# Altium footprint library PCB1.PcbLib: 32 footprints (part 1 of 2)
Each footprint in its own frame and in the unit in brackets; x right, y up, seen from the top. Pads: shape width x height; smd on the part's side, far side on the other; paste and mask are expansions set on the pad; w line width, h text height; cw(c..) or ccw(c..) is an arc to the next point about the centre after c.
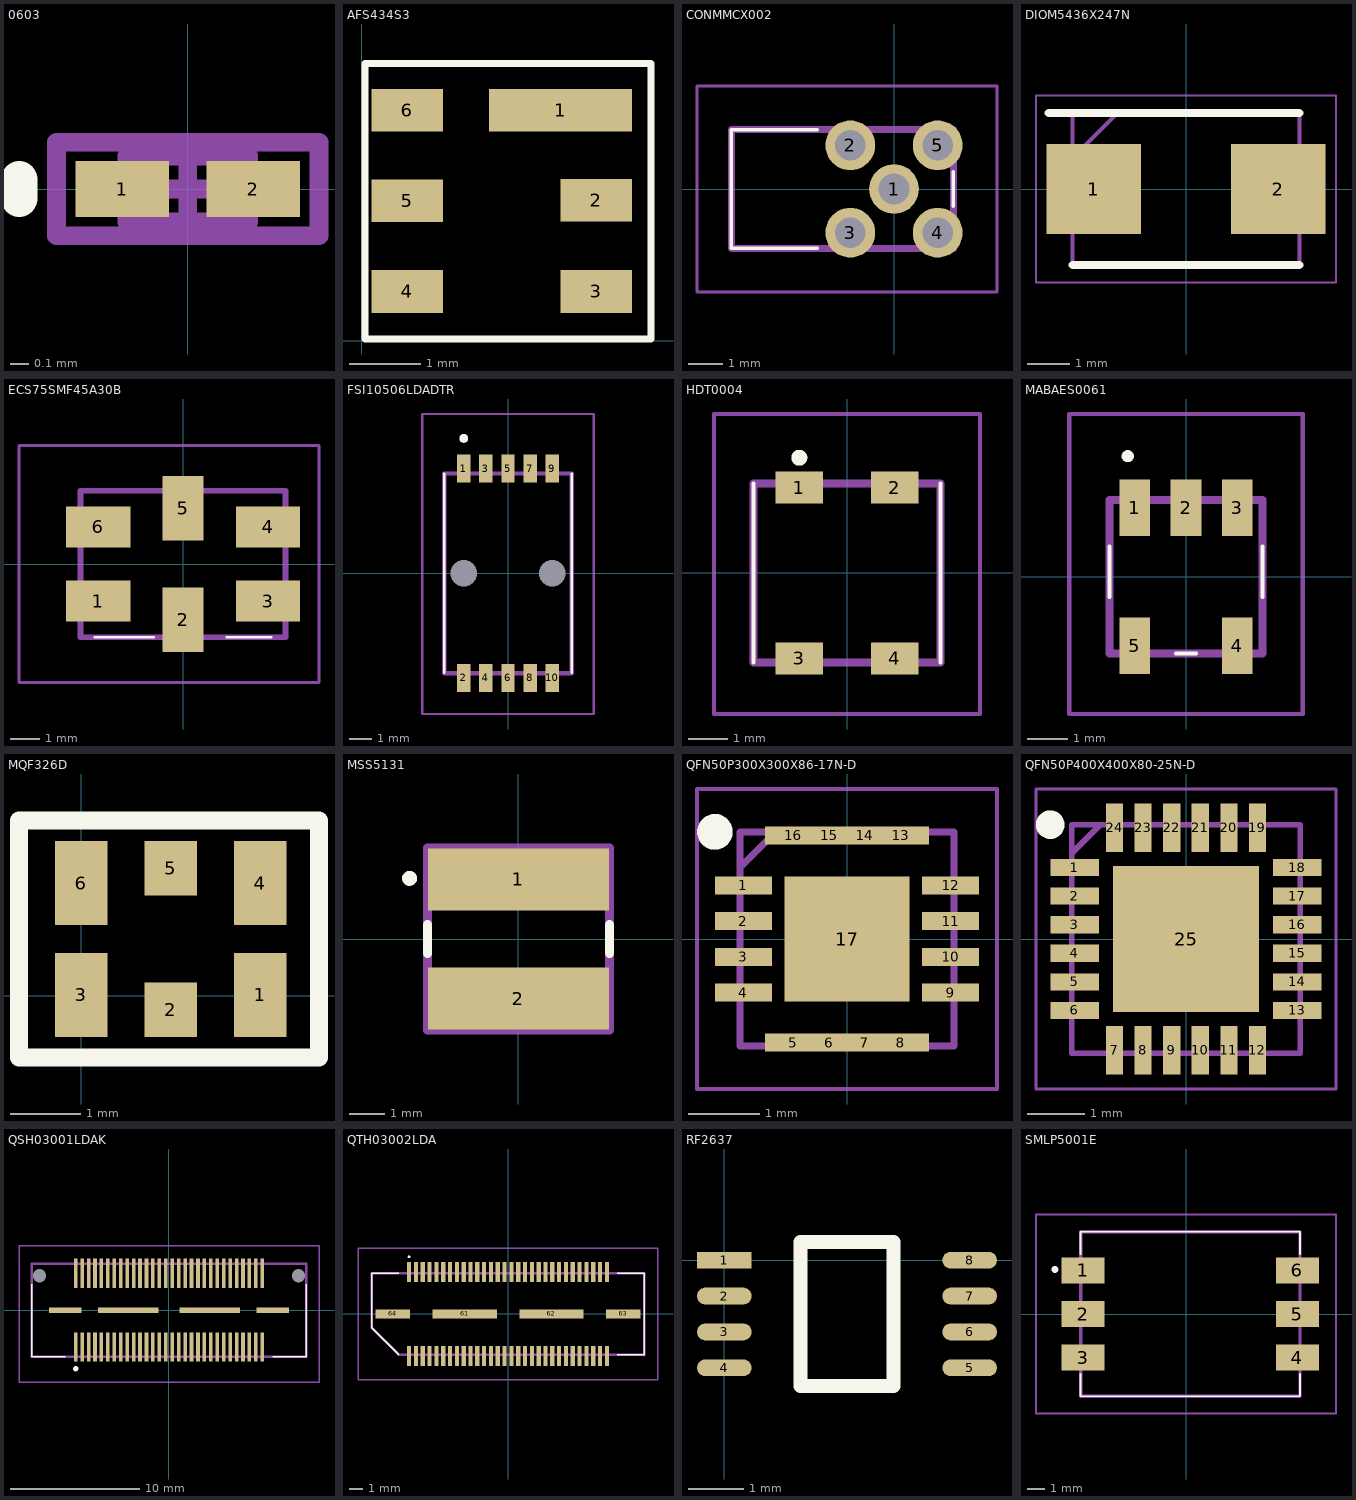
[diagram p0: the footprints below, top view; thin cyan lines are the x and y axes]

## 0603 [mm] "Chip Inductor, Body 0.6x0.3mm, IPC High Density"
height 0.55
pads (2):
  rect 0.5x0.3 smd: 1(-0.35,0) 2(0.35,0)
Top Overlay:
  lines w0.2: -0.9,-0.05 -0.9,0.05
Mechanical 13:
  lines w0.1: -0.325,-0.175 -0.325,0.175 0.325,0.175 0.325,-0.175 -0.325,-0.175
Mechanical 15:
  lines w0.1: -0.175,0 0.175,0 ; 0,-0.175 0,0.175 ; -0.7,-0.25 -0.7,0.25 0.7,0.25 0.7,-0.25 -0.7,-0.25
3D body: height 0.55, standoff 0, extent -0.325,-0.175 0.325,0.175

## AFS434S3 [mm]
pads (6):
  rect 2x0.6 smd: 1(2.784,3.233)
  rect 1x0.6 smd: 2(3.284,1.973) 3(3.284,0.694) 4(0.634,0.694) 5(0.634,1.965) 6(0.634,3.234)
Top Overlay:
  lines w0.1: 0.042,0.028 0.042,3.889 4.055,3.889 4.055,0.028 0.042,0.028

## CONMMCX002 [mm]
pads (5):
  round 1.446 hole 0.89: 1(0,0) 2(-1.27,1.27) 3(-1.27,-1.27) 4(1.27,-1.27) 5(1.27,1.27)
Top Overlay:
  lines w0.1: -2.225,-1.725 -4.725,-1.725 -4.725,1.725 -2.225,1.725 ; 1.725,-0.5 1.725,0.5
Mechanical 13:
  lines w0.2: -4.725,-1.725 -4.725,1.725 1.725,1.725 1.725,-1.725 -4.725,-1.725
Mechanical 15:
  lines w0.1: -5.725,-2.993 -5.725,2.993 2.993,2.993 2.993,-2.993 -5.725,-2.993
3D body "CONMMCX002.stp": height 3.45, standoff -5, extent -4.725,-1.725 1.725,1.725

## DIOM5436X247N [mm]
pads (2):
  rect 2.25x2.15 smd: 1(-2.2,0) 2(2.2,0)
Top Overlay:
  lines w0.2: -3.275,1.812 2.702,1.812 ; -2.702,-1.812 2.702,-1.812
Mechanical 13:
  lines w0.1: -2.702,0.738 -1.628,1.812 ; -2.702,-1.812 -2.702,1.812 2.702,1.812 2.702,-1.812 -2.702,-1.812
Mechanical 15:
  lines w0.05: -3.575,-2.225 -3.575,2.225 3.575,2.225 3.575,-2.225 -3.575,-2.225
3D body "MBRS120T3G.stp": height 2.47, standoff 0, extent -2.702,-1.813 2.702,1.813

## ECS75SMF45A30B [mm]
pads (6):
  rect 2.2x1.4 smd: 1(-2.9,-1.27) 3(2.9,-1.27) 4(2.9,1.27) 6(-2.9,1.27)
  rect 1.4x2.2 smd: 2(0,-1.905) 5(0,1.905)
Top Overlay:
  lines w0.1: -3,-2.5 -1,-2.5 ; 1.5,-2.5 3,-2.5
Mechanical 13:
  lines w0.2: -3.5,-2.5 -3.5,2.5 3.5,2.5 3.5,-2.5 -3.5,-2.5
Mechanical 15:
  lines w0.1: -5.6,-4.05 -5.6,4.05 4.64,4.05 4.64,-4.05 -5.6,-4.05

## FSI10506LDADTR [mm]
pads (12):
  rect 0.61x1.26 smd: 1(-2,4.73) 2(-2,-4.73) 3(-1,4.73) 4(-1,-4.73) 5(0,4.73) 6(0,-4.73) 7(1,4.73) 8(1,-4.73) 9(2,4.73) 10(2,-4.73)
  round 0.595 hole 1.19 unplated: MH1(-2,0) MH2(2,0)
Top Overlay:
  lines w0.1: -2.88,-4.51 -2.88,4.51 ; 2.88,-4.51 2.88,4.51
  lines w0.2: -2,6 cw(c-2,6.1) -2,6.2 cw(c-2,6.1) -2,6
Mechanical 13:
  lines w0.2: -2.88,-4.51 -2.88,4.51 2.88,4.51 2.88,-4.51 -2.88,-4.51
Mechanical 15:
  lines w0.1: -3.88,-6.36 -3.88,7.2 3.88,7.2 3.88,-6.36 -3.88,-6.36
3D body "FSI-105-06-L-D-AD-TR.stp": height 7.5, standoff -1.7, extent -2.88,-5.299 2.88,5.299

## HDT0004 [mm]
pads (4):
  rect 1.2x0.8 smd: 1(-1.2,2.15) 2(1.2,2.15) 3(-1.2,-2.15) 4(1.2,-2.15)
Top Overlay:
  lines w0.1: -2.35,-2.25 -2.35,2.25 ; 2.35,-2.25 2.35,2.25
  lines w0.2: -1.3,2.9 ccw(c-1.2,2.9) -1.1,2.9 ccw(c-1.2,2.9) -1.3,2.9
Mechanical 13:
  lines w0.2: -2.35,-2.25 -2.35,2.25 2.35,2.25 2.35,-2.25 -2.35,-2.25
Mechanical 15:
  lines w0.1: -3.35,-3.55 -3.35,4 3.35,4 3.35,-3.55 -3.35,-3.55
3D body "HDT0004.stp": height 3.1, standoff 0, extent -2.35,-2.47 2.35,2.47

## MABAES0061 [mm]
pads (5):
  rect 0.76x1.4 smd: 1(-1.27,1.715) 2(0,1.715) 3(1.27,1.715) 4(1.27,-1.715) 5(-1.27,-1.715)
Top Overlay:
  lines w0.1: -1.905,-0.5 -1.905,0.75 -1.905,-0.5 ; -0.25,-1.905 0.25,-1.905 -0.25,-1.905 ; 1.905,-0.5 1.905,0.75 1.905,-0.5
  lines w0.2: -1.5,3 ccw(c-1.45,3) -1.4,3 ; -1.5,3 cw(c-1.45,3) -1.4,3 ; -1.5,3 ccw(c-1.45,3) -1.4,3
Mechanical 13:
  lines w0.2: -1.905,-1.905 1.905,-1.905 1.905,1.905 -1.905,1.905 -1.905,-1.905
Mechanical 15:
  lines w0.1: -2.905,-3.415 2.905,-3.415 2.905,4.05 -2.905,4.05 -2.905,-3.415
3D body "MABAES0061.stp": height 0.74, standoff 0, extent -1.905,-2.339 1.905,2.339

## MQF326D [mm]
pads (6):
  rect 0.75x1.2 smd: 1(2.557,0.011) 3(-0.004,0.011) 4(2.557,1.611) 6(-0.004,1.611)
  rect 0.75x0.78 smd: 2(1.277,-0.199) 5(1.277,1.821)
Top Overlay:
  lines w0.254: -0.892,-0.883 3.398,-0.883 3.398,2.505 -0.892,2.505 -0.892,-0.883

## MSS5131 [mm]
pads (2):
  rect 5.08x1.74 smd: 1(0,1.67) 2(0,-1.67)
Top Overlay:
  circle w0.254: c-3.058,1.701 r0.081
  lines w0.254: -2.55,-0.4 -2.55,0.4 ; 2.55,-0.4 2.55,0.4
Mechanical 13:
  lines w0.254: -2.55,-2.55 -2.55,2.55 2.55,2.55 2.55,-2.55 -2.55,-2.55

## QFN50P300X300X86-17N-D [mm]
pads (17):
  rect 0.8x0.25 smd: 1(-1.45,0.75) 2(-1.45,0.25) 3(-1.45,-0.25) 4(-1.45,-0.75) 5(-0.75,-1.45) 6(-0.25,-1.45) 7(0.25,-1.45) 8(0.75,-1.45) 9(1.45,-0.75) 10(1.45,-0.25) 11(1.45,0.25) 12(1.45,0.75) 13(0.75,1.45) 14(0.25,1.45) 15(-0.25,1.45) 16(-0.75,1.45)
  rect 1.75x1.75 smd: 17(0,0)
Top Overlay:
  circle w0.25: c-1.85,1.5 r0.125
Mechanical 13:
  lines w0.1: -1.5,1 -1,1.5 ; -1.5,-1.5 1.5,-1.5 1.5,1.5 -1.5,1.5 -1.5,-1.5
Mechanical 15:
  lines w0.05: -2.1,-2.1 2.1,-2.1 2.1,2.1 -2.1,2.1 -2.1,-2.1
3D body "RFPA0133TR7.stp": height 0.85, standoff 0, extent -1.55,-1.55 1.55,1.55

## QFN50P400X400X80-25N-D [mm]
pads (25):
  rect 0.85x0.3 smd: 1(-1.95,1.25) 2(-1.95,0.75) 3(-1.95,0.25) 4(-1.95,-0.25) 5(-1.95,-0.75) 6(-1.95,-1.25) 13(1.95,-1.25) 14(1.95,-0.75) 15(1.95,-0.25) 16(1.95,0.25) 17(1.95,0.75) 18(1.95,1.25)
  rect 0.3x0.85 smd: 7(-1.25,-1.95) 8(-0.75,-1.95) 9(-0.25,-1.95) 10(0.25,-1.95) 11(0.75,-1.95) 12(1.25,-1.95) 19(1.25,1.95) 20(0.75,1.95) 21(0.25,1.95) 22(-0.25,1.95) 23(-0.75,1.95) 24(-1.25,1.95)
  rect 2.55x2.55 smd: 25(0,0)
Top Overlay:
  circle w0.25: c-2.375,2 r0.125
Mechanical 13:
  lines w0.1: -2,1.5 -1.5,2 ; -2,-2 -2,2 2,2 2,-2 -2,-2
Mechanical 15:
  lines w0.05: -2.625,-2.625 -2.625,2.625 2.625,2.625 2.625,-2.625 -2.625,-2.625
3D body "LTC5599IUF#TRPBF.stp": height 0.8, standoff 0, extent -2.05,-2.05 2.05,2.05

## QSH03001LDAK [mm]
pads (66):
  rect 0.279x2.27 smd: 1(-7.25,-2.865) 2(-7.25,2.865) 3(-6.75,-2.865) 4(-6.75,2.865) 5(-6.25,-2.865) 6(-6.25,2.865) 7(-5.75,-2.865) 8(-5.75,2.865) 9(-5.25,-2.865) 10(-5.25,2.865) 11(-4.75,-2.865) 12(-4.75,2.865) 13(-4.25,-2.865) 14(-4.25,2.865) 15(-3.75,-2.865) 16(-3.75,2.865) 17(-3.25,-2.865) 18(-3.25,2.865) 19(-2.75,-2.865) 20(-2.75,2.865) 21(-2.25,-2.865) 22(-2.25,2.865) 23(-1.75,-2.865) 24(-1.75,2.865) 25(-1.25,-2.865) 26(-1.25,2.865) 27(-0.75,-2.865) 28(-0.75,2.865) 29(-0.25,-2.865) 30(-0.25,2.865) 31(0.25,-2.865) 32(0.25,2.865) 33(0.75,-2.865) 34(0.75,2.865) 35(1.25,-2.865) 36(1.25,2.865) 37(1.75,-2.865) 38(1.75,2.865) 39(2.25,-2.865) 40(2.25,2.865) 41(2.75,-2.865) 42(2.75,2.865) 43(3.25,-2.865) 44(3.25,2.865) 45(3.75,-2.865) 46(3.75,2.865) 47(4.25,-2.865) 48(4.25,2.865) 49(4.75,-2.865) 50(4.75,2.865) 51(5.25,-2.865) 52(5.25,2.865) 53(5.75,-2.865) 54(5.75,2.865) 55(6.25,-2.865) 56(6.25,2.865) 57(6.75,-2.865) 58(6.75,2.865) 59(7.25,-2.865) 60(7.25,2.865)
  round 0.51 hole 1.02 unplated: MH1(-10.065,2.67) MH2(10.065,2.67)
  rect 2.54x0.43 smd: MP1(-8.065,0) MP2(8.065,0)
  rect 4.7x0.43 smd: MP3(-3.175,0) MP4(3.175,0)
Top Overlay:
  lines w0.1: -10.655,2 -10.655,-3.62 -8.065,-3.62 ; 8.065,-3.62 10.655,-3.62 10.655,2
  lines w0.3: -7.25,-4.6 ccw(c-7.25,-4.55) -7.25,-4.5 ccw(c-7.25,-4.55) -7.25,-4.6
Mechanical 13:
  lines w0.2: -10.655,-3.62 -10.655,3.62 10.655,3.62 10.655,-3.62 -10.655,-3.62
Mechanical 15:
  lines w0.1: -11.655,-5.6 -11.655,5 11.655,5 11.655,-5.6 -11.655,-5.6
3D body "QSH-030-01-L-D-A-K.stp": height 3.45, standoff -5, extent -10.655,-3.972 10.655,3.972

## QTH03002LDA [mm]
pads (64):
  rect 0.305x1.45 smd: 1(-7.25,3.086) 2(-7.25,-3.086) 3(-6.75,3.086) 4(-6.75,-3.086) 5(-6.25,3.086) 6(-6.25,-3.086) 7(-5.75,3.086) 8(-5.75,-3.086) 9(-5.25,3.086) 10(-5.25,-3.086) 11(-4.75,3.086) 12(-4.75,-3.086) 13(-4.25,3.086) 14(-4.25,-3.086) 15(-3.75,3.086) 16(-3.75,-3.086) 17(-3.25,3.086) 18(-3.25,-3.086) 19(-2.75,3.086) 20(-2.75,-3.086) 21(-2.25,3.086) 22(-2.25,-3.086) 23(-1.75,3.086) 24(-1.75,-3.086) 25(-1.25,3.086) 26(-1.25,-3.086) 27(-0.75,3.086) 28(-0.75,-3.086) 29(-0.25,3.086) 30(-0.25,-3.086) 31(0.25,3.086) 32(0.25,-3.086) 33(0.75,3.086) 34(0.75,-3.086) 35(1.25,3.086) 36(1.25,-3.086) 37(1.75,3.086) 38(1.75,-3.086) 39(2.25,3.086) 40(2.25,-3.086) 41(2.75,3.086) 42(2.75,-3.086) 43(3.25,3.086) 44(3.25,-3.086) 45(3.75,3.086) 46(3.75,-3.086) 47(4.25,3.086) 48(4.25,-3.086) 49(4.75,3.086) 50(4.75,-3.086) 51(5.25,3.086) 52(5.25,-3.086) 53(5.75,3.086) 54(5.75,-3.086) 55(6.25,3.086) 56(6.25,-3.086) 57(6.75,3.086) 58(6.75,-3.086) 59(7.25,3.086) 60(7.25,-3.086)
  rect 4.7x0.64 smd: 61(-3.175,0) 62(3.175,0)
  rect 2.54x0.64 smd: 63(8.445,0) 64(-8.445,0)
Top Overlay:
  lines w0.1: -8,-2.985 -10,-1 -10,2.985 -8,2.985 ; 8,-3 10,-2.985 10,3 8,2.985 ; -7.3,4.2 ccw(c-7.25,4.2) -7.2,4.2 ccw(c-7.25,4.2) -7.3,4.2
Mechanical 13:
  lines w0.2: -10,-1 -10,2.985 10,2.985 10,-3 -8,-2.985 -10,-1
Mechanical 15:
  lines w0.1: -11,-4.811 11,-4.811 11,4.811 -11,4.811 -11,-4.811
3D body "QTH-030-02-L-D-A.stp": height 7.16, standoff 0, extent -10,-3.781 10,3.781

## RF2637 [mil]
pads (8):
  rect 39x12 smd: 1(0,0)
  oval 39x12 smd: 2(0,-25.6) 3(0,-51.2) 4(0,-76.8) 5(175,-76.8) 6(175,-51.2) 7(175,-25.6) 8(175,0)
Top Overlay:
  lines w10: 93.87,12.8 54.5,12.8 54.5,-89.6 120.5,-89.6 120.5,12.8 93.9,12.8

## SMLP5001E [mm]
pads (6):
  rect 2.5x1.5 smd: 1(-6,2.54) 2(-6,0) 3(-6,-2.54) 4(6.5,-2.54) 5(6.5,0) 6(6.5,2.54)
Top Overlay:
  lines w0.1: -6.15,-3.5 -6.15,-4.8 6.65,-4.8 6.65,-3.5 ; -6.15,3.5 -6.15,4.8 6.65,4.8 6.65,3.5
  lines w0.2: -7.65,2.5 cw(c-7.65,2.6) -7.65,2.7 cw(c-7.65,2.6) -7.65,2.5
Mechanical 13:
  lines w0.2: -6.15,-4.8 -6.15,4.8 6.65,4.8 6.65,-4.8 -6.15,-4.8
Mechanical 15:
  lines w0.1: -8.75,-5.8 -8.75,5.8 8.75,5.8 8.75,-5.8 -8.75,-5.8
3D body "SM-LP-5001E.stp": height 7.1, standoff 0, extent -7.1,-4.8 7.6,4.8